# EAGLE library part TYCO-1368011-X (library Traficon)
CT: Connector to replace the 2_stacked_rj45_w_leds (12/03/2008)
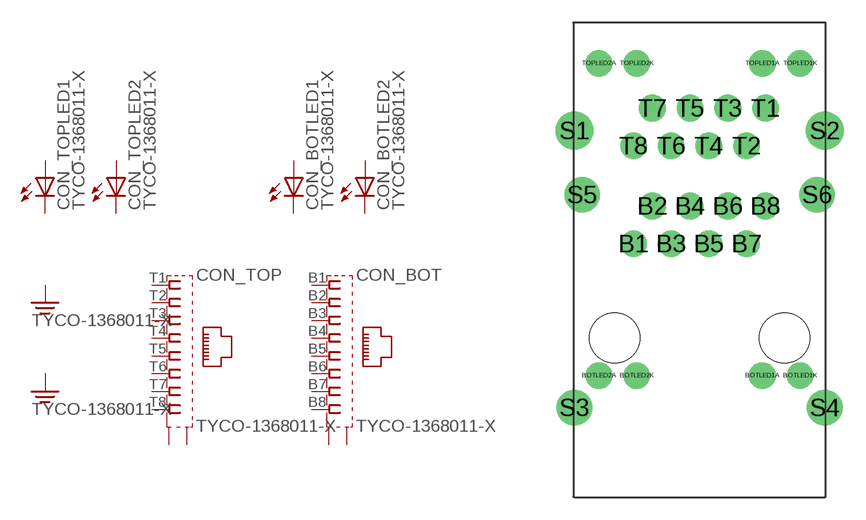
[diagram p184: symbol with the pads of TYCO_1368011-X; footprint TYCO_1368011-X]

Designator prefix CON; gates _BOT=JACK8SH _TOP=JACK8SH _TOPLED1=LED-1 _TOPLED2=LED-1 _BOTLED1=LED-1 _BOTLED2=LED-1 _SH1=PE _SH2=PE

## TYCO-1368011-X  [TYCO_1368011-X]
B1  _BOT:1  pas
B2  _BOT:2  pas
B3  _BOT:3  pas
B4  _BOT:4  pas
B5  _BOT:5  pas
B6  _BOT:6  pas
B7  _BOT:7  pas
B8  _BOT:8  pas
BOTLED1A  _BOTLED1:A  pas
BOTLED1K  _BOTLED1:C  pas
BOTLED2A  _BOTLED2:A  pas
BOTLED2K  _BOTLED2:C  pas
S1  _BOT:S1  pas
S2  _BOT:S2  pas
S3  _TOP:S1  pas
S4  _TOP:S2  pas
T1  _TOP:1  pas
T2  _TOP:2  pas
T3  _TOP:3  pas
T4  _TOP:4  pas
T5  _TOP:5  pas
T6  _TOP:6  pas
T7  _TOP:7  pas
T8  _TOP:8  pas
TOPLED1A  _TOPLED1:A  pas
TOPLED1K  _TOPLED1:C  pas
TOPLED2A  _TOPLED2:A  pas
TOPLED2K  _TOPLED2:C  pas

## Footprint TYCO_1368011-X (pad centres in mm)
drill 1.2 round: B1 1.265,6.35; B2 2.535,8.89; B3 3.805,6.35; B4 5.075,8.89; B5 6.345,6.35; B6 7.615,8.89; B7 8.885,6.35; B8 10.155,8.89; BOTLED1A 9.95,-2.54; BOTLED1K 12.49,-2.54; BOTLED2A -1.06,-2.54; BOTLED2K 1.48,-2.54; T1 10.155,15.49; T2 8.885,12.95; T3 7.615,15.49; T4 6.345,12.95; T5 5.075,15.49; T6 3.805,12.95; T7 2.535,15.49; T8 1.265,12.95; TOPLED1A 9.95,18.51; TOPLED1K 12.49,18.51; TOPLED2A -1.06,18.51; TOPLED2K 1.48,18.51
drill 1.7 round: S1 -2.72,13.971; S2 14.15,13.971
drill 1.6 round: S3 -2.721,-4.699; S4 14.156,-4.702; S5 -2.197,9.65; S6 13.631,9.65
hole 3.4 at 0,0
hole 3.4 at 11.43,0